# EAGLE library part RESISTOR_ARR4 (library AniBike_Common_Library)
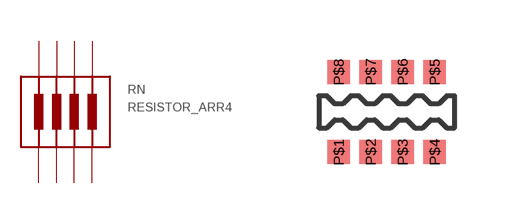
[diagram p6: symbol with the pads of YCTC164; footprint YCTC164]

Designator prefix RN

## RESISTOR_ARR4  [YCTC164]
P$1  P$1
P$2  P$2
P$3  P$3
P$4  P$4
P$5  P$5
P$6  P$6
P$7  P$7
P$8  P$8

## Footprint YCTC164 (pad centres in mm)
smd 0.559 x 0.6: P$1 -1.2,-1.003; P$2 -0.4,-1.003; P$3 0.4,-1.003; P$4 1.2,-1.003; P$5 1.2,1.003; P$6 0.4,1.003; P$7 -0.4,1.003; P$8 -1.2,1.003